# EAGLE library part ERM2004-2 (library ERN2004-2)
ERM2004-2 SERIES Character Module 20 Columns x 4 Lines
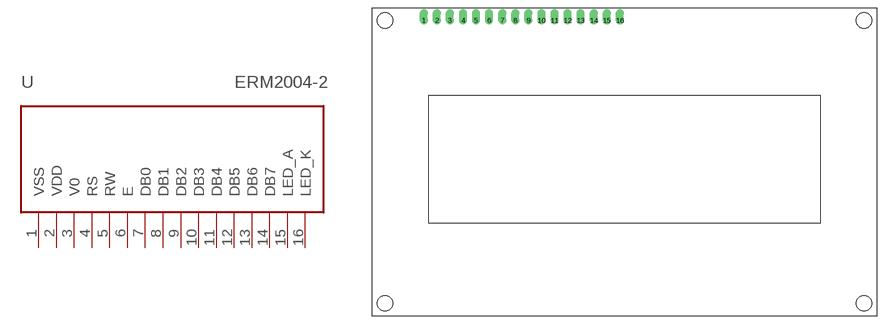
[diagram p0: symbol with the pads of ERM2004-2; footprint ERM2004-2]

Designator prefix -

## ERM2004-2  [ERM2004-2]
1  VSS
2  VDD
3  V0
4  RS
5  RW
6  E
7  DB0
8  DB1
9  DB2
10  DB3
11  DB4
12  DB5
13  DB6
14  DB7
15  LED_A
16  LED_K

## Footprint ERM2004-2 (pad centres in mm)
drill 1 offset: 1 10.02,-2.5; 2 12.56,-2.5; 3 15.1,-2.5; 4 17.64,-2.5; 5 20.18,-2.5; 6 22.72,-2.5; 7 25.26,-2.5; 8 27.8,-2.5; 9 30.34,-2.5; 10 32.88,-2.5; 11 35.42,-2.5; 12 37.96,-2.5; 13 40.5,-2.5; 14 43.04,-2.5; 15 45.58,-2.5; 16 48.12,-2.5
hole 3 at 2.5,-2.5
hole 3 at 2.5,-57.5
hole 3 at 95.5,-2.5
hole 3 at 95.5,-57.5